# EAGLE library part FEMALE_HEADER_5X2 (library connectors)
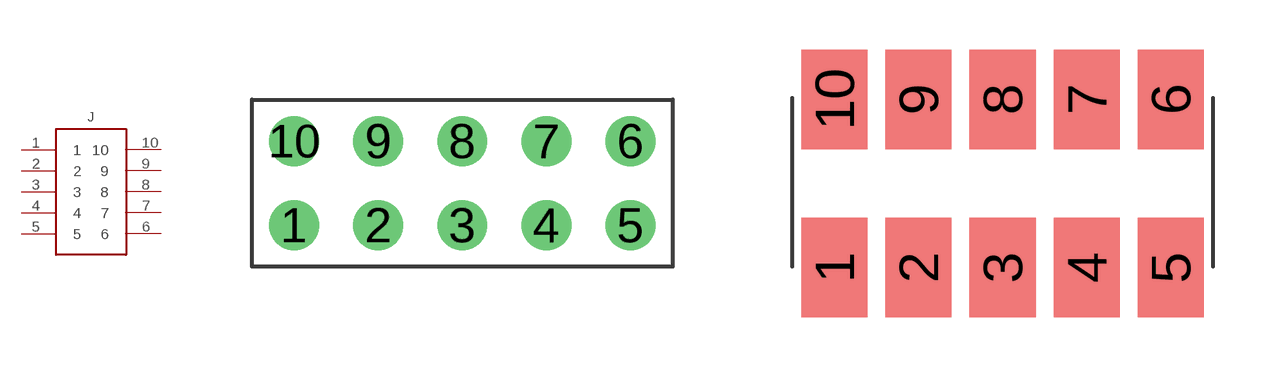
[diagram p5: symbol with the pads of 5X2_HEADER; footprints 5X2_HEADER, 5X2_HEADER_SMT]

Designator prefix J

## FEMALE_HEADER_5X2THT  [5X2_HEADER]
1  1
2  2
3  3
4  4
5  5
6  6
7  7
8  8
9  9
10  10

## FEMALE_HEADER_5X2SMT  [5X2_HEADER_SMT]
Pads as for 5X2_HEADER

## FEMALE_HEADER_5X2  [5X2_HEADER_SMT_1.27]
Pads as for 5X2_HEADER

## Footprint 5X2_HEADER (pad centres in mm)
drill 1: 1 -5.08,-1.27; 2 -2.54,-1.27; 3 0,-1.27; 4 2.54,-1.27; 5 5.08,-1.27; 6 5.08,1.27; 7 2.54,1.27; 8 0,1.27; 9 -2.54,1.27; 10 -5.08,1.27

## Footprint 5X2_HEADER_SMT (pad centres in mm)
smd 2 x 3: 1 -5.08,-2.58; 2 -2.54,-2.58; 3 0,-2.58; 4 2.54,-2.58; 5 5.08,-2.58; 6 5.08,2.5; 7 2.54,2.5; 8 0,2.5; 9 -2.54,2.5; 10 -5.08,2.5

## Footprint 5X2_HEADER_SMT_1.27 (pad centres in mm)
smd 0.74 x 2.5: 1 -2.54,-2; 2 -1.27,-2; 3 0,-2; 4 1.27,-2; 5 2.54,-2; 6 2.54,2; 7 1.27,2; 8 0,2; 9 -1.27,2; 10 -2.54,2